# Altium footprint library 4700uF.PcbLib: 1 footprints
Each footprint in its own frame and in the unit in brackets; x right, y up, seen from the top. Pads: shape width x height; smd on the part's side, far side on the other; paste and mask are expansions set on the pad; w line width, h text height; cw(c..) or ccw(c..) is an arc to the next point about the centre after c.
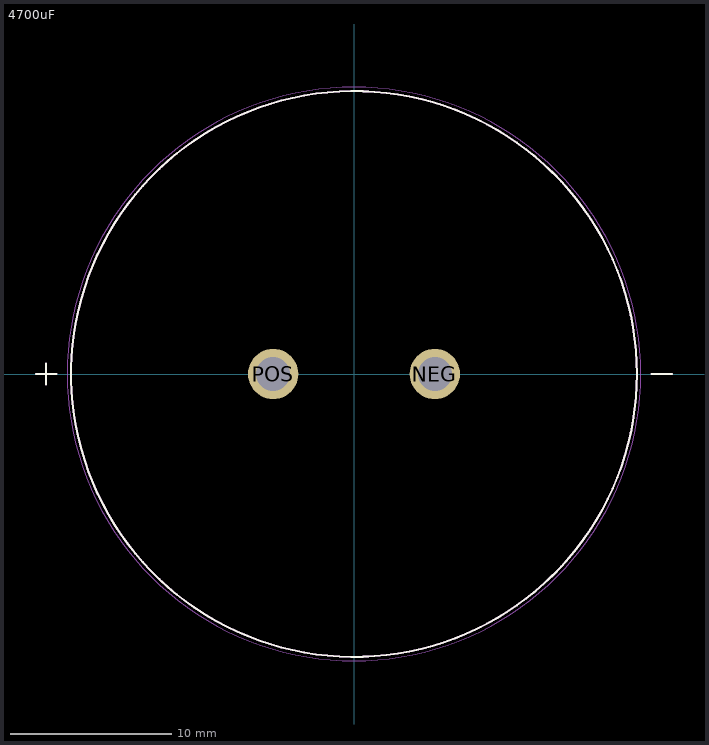
[diagram p0: the footprint, top view; thin cyan lines are the x and y axes]

## 4700uF [mm]
pads (2):
  round 3.116 hole 2.1: NEG(5,0) POS(-5,0)
Top Overlay:
  circle w0.127: c0,0 r17.5
  lines w0.127: -19.685,0 -18.415,0 ; -19.05,-0.635 -19.05,0.635 ; 18.415,0 19.685,0
Mechanical 13:
  circle w0.127: c0,0 r17.5
  lines w0.127: -19.685,0 -18.415,0 ; -19.05,-0.635 -19.05,0.635 ; 18.415,0 19.685,0
Mechanical 15:
  circle w0.05: c0,0 r17.75
3D body "step_temp.STEP": height 57, standoff -7.3, extent -17.495,-17.5 17.5,17.5